# EAGLE library part ML34 (library con-harting-ml11)
HARTING
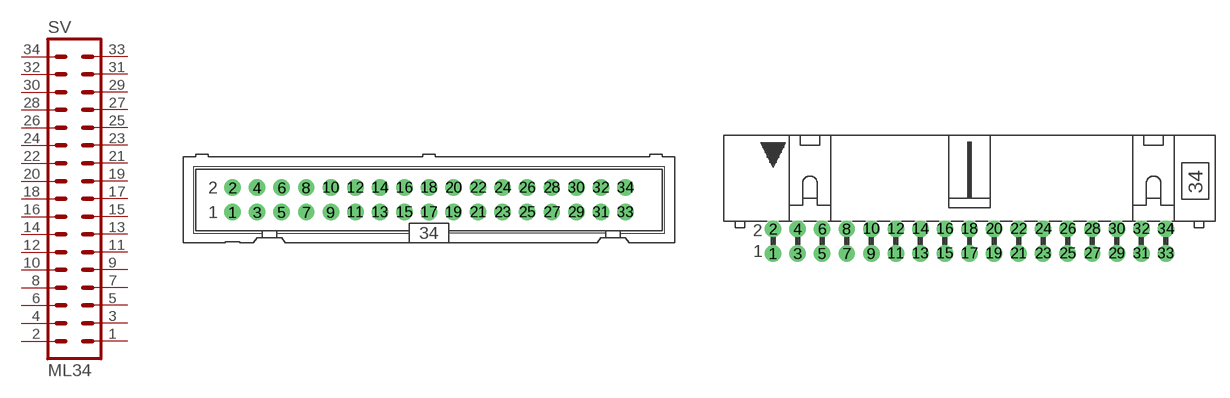
[diagram p5: symbol with the pads of ML34; footprints ML34, ML34L]

Designator prefix SV

## ML34  [ML34]
1  1  pas
2  2  pas
3  3  pas
4  4  pas
5  5  pas
6  6  pas
7  7  pas
8  8  pas
9  9  pas
10  10  pas
11  11  pas
12  12  pas
13  13  pas
14  14  pas
15  15  pas
16  16  pas
17  17  pas
18  18  pas
19  19  pas
20  20  pas
21  21  pas
22  22  pas
23  23  pas
24  24  pas
25  25  pas
26  26  pas
27  27  pas
28  28  pas
29  29  pas
30  30  pas
31  31  pas
32  32  pas
33  33  pas
34  34  pas

## ML34L  [ML34L]
Pads as for ML34

## ML343M  [3M_34]
Pads as for ML34

## ML343ML  [3M_34L]
Pads as for ML34

## Footprint ML34 (pad centres in mm)
HARTING
drill 0.914 pad 1.7 round: 1 -20.32,-1.27; 2 -20.32,1.27; 3 -17.78,-1.27; 4 -17.78,1.27; 5 -15.24,-1.27; 6 -15.24,1.27; 7 -12.7,-1.27; 8 -12.7,1.27; 9 -10.16,-1.27; 10 -10.16,1.27; 11 -7.62,-1.27; 12 -7.62,1.27; 13 -5.08,-1.27; 14 -5.08,1.27; 15 -2.54,-1.27; 16 -2.54,1.27; 17 0,-1.27; 18 0,1.27; 19 2.54,-1.27; 20 2.54,1.27; 21 5.08,-1.27; 22 5.08,1.27; 23 7.62,-1.27; 24 7.62,1.27; 25 10.16,-1.27; 26 10.16,1.27; 27 12.7,-1.27; 28 12.7,1.27; 29 15.24,-1.27; 30 15.24,1.27; 31 17.78,-1.27; 32 17.78,1.27; 33 20.32,-1.27; 34 20.32,1.27

## Footprint ML34L (pad centres in mm)
HARTING
drill 0.914 pad 1.7 round: 1 -20.32,-1.27; 2 -20.32,1.27; 3 -17.78,-1.27; 4 -17.78,1.27; 5 -15.24,-1.27; 6 -15.24,1.27; 7 -12.7,-1.27; 8 -12.7,1.27; 9 -10.16,-1.27; 10 -10.16,1.27; 11 -7.62,-1.27; 12 -7.62,1.27; 13 -5.08,-1.27; 14 -5.08,1.27; 15 -2.54,-1.27; 16 -2.54,1.27; 17 0,-1.27; 18 0,1.27; 19 2.54,-1.27; 20 2.54,1.27; 21 5.08,-1.27; 22 5.08,1.27; 23 7.62,-1.27; 24 7.62,1.27; 25 10.16,-1.27; 26 10.16,1.27; 27 12.7,-1.27; 28 12.7,1.27; 29 15.24,-1.27; 30 15.24,1.27; 31 17.78,-1.27; 32 17.78,1.27; 33 20.32,-1.27; 34 20.32,1.27

## Footprint 3M_34 (pad centres in mm)
3M
drill 0.813 pad 1.7 round: 1 -20.32,-1.27; 2 -20.32,1.27; 3 -17.78,-1.27; 4 -17.78,1.27; 5 -15.24,-1.27; 6 -15.24,1.27; 7 -12.7,-1.27; 8 -12.7,1.27; 9 -10.16,-1.27; 10 -10.16,1.27; 11 -7.62,-1.27; 12 -7.62,1.27; 13 -5.08,-1.27; 14 -5.08,1.27; 15 -2.54,-1.27; 16 -2.54,1.27; 17 0,-1.27; 18 0,1.27; 19 2.54,-1.27; 20 2.54,1.27; 21 5.08,-1.27; 22 5.08,1.27; 23 7.62,-1.27; 24 7.62,1.27; 25 10.16,-1.27; 26 10.16,1.27; 27 12.7,-1.27; 28 12.7,1.27; 29 15.24,-1.27; 30 15.24,1.27; 31 17.78,-1.27; 32 17.78,1.27; 33 20.32,-1.27; 34 20.32,1.27

## Footprint 3M_34L (pad centres in mm)
3M
drill 0.813 pad 1.7 round: 1 -20.32,-5.08; 2 -20.32,-2.54; 3 -17.78,-5.08; 4 -17.78,-2.54; 5 -15.24,-5.08; 6 -15.24,-2.54; 7 -12.7,-5.08; 8 -12.7,-2.54; 9 -10.16,-5.08; 10 -10.16,-2.54; 11 -7.62,-5.08; 12 -7.62,-2.54; 13 -5.08,-5.08; 14 -5.08,-2.54; 15 -2.54,-5.08; 16 -2.54,-2.54; 17 0,-5.08; 18 0,-2.54; 19 2.54,-5.08; 20 2.54,-2.54; 21 5.08,-5.08; 22 5.08,-2.54; 23 7.62,-5.08; 24 7.62,-2.54; 25 10.16,-5.08; 26 10.16,-2.54; 27 12.7,-5.08; 28 12.7,-2.54; 29 15.24,-5.08; 30 15.24,-2.54; 31 17.78,-5.08; 32 17.78,-2.54; 33 20.32,-5.08; 34 20.32,-2.54
hole 2.54 at -26.238,-3.277
hole 2.54 at 26.238,-3.277